# Altium footprint library DIOM505270X240.PcbLib: 2 footprints
Each footprint in its own frame and in the unit in brackets; x right, y up, seen from the top. Pads: shape width x height; smd on the part's side, far side on the other; paste and mask are expansions set on the pad; w line width, h text height; cw(c..) or ccw(c..) is an arc to the next point about the centre after c.
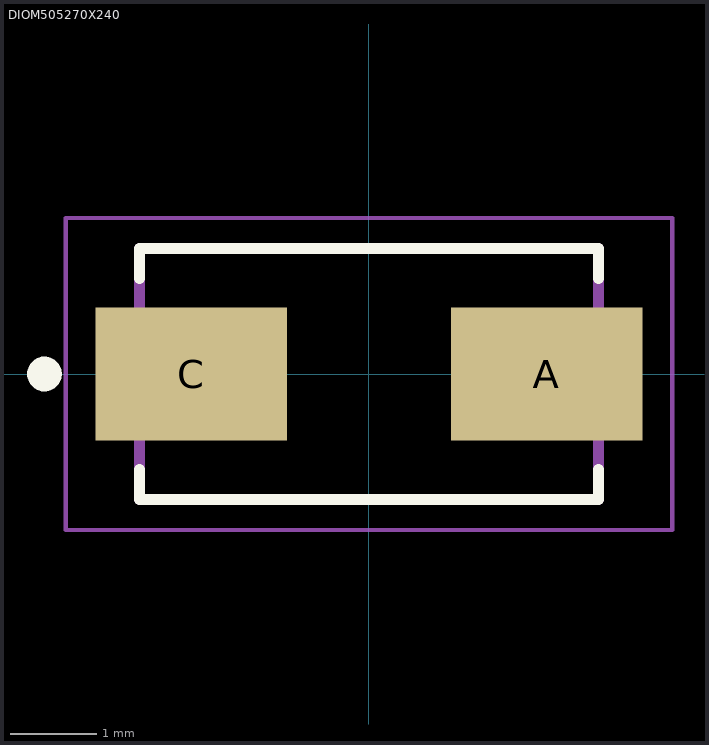
[diagram p0: the footprints below, top view; thin cyan lines are the x and y axes]

## DIOM505270X240 [mm]
pads (2):
  rect 2.21x1.53 smd: A(2.05,0) C(-2.05,0)
Top Overlay:
  circle w0.2: c-3.746,0 r0.1
  lines w0.127: -2.65,-1.1 -2.65,-1.45 2.65,-1.45 2.65,-1.1 ; -2.65,1.1 -2.65,1.45 2.65,1.45 2.65,1.1
Mechanical 1:
  lines w0.127: -2.65,-1.45 -2.65,1.45 2.65,1.45 2.65,-1.45 -2.65,-1.45
Mechanical 4:
  lines w0.05: -3.5,-1.8 3.5,-1.8 3.5,1.8 -3.5,1.8 -3.5,-1.8

## PCBComponent_1 [mm]